# Altium schematic symbol library 00001-A-01.SchLib: 51 symbols
Pins are listed as number, name and electrical type; pins without a type are passive.

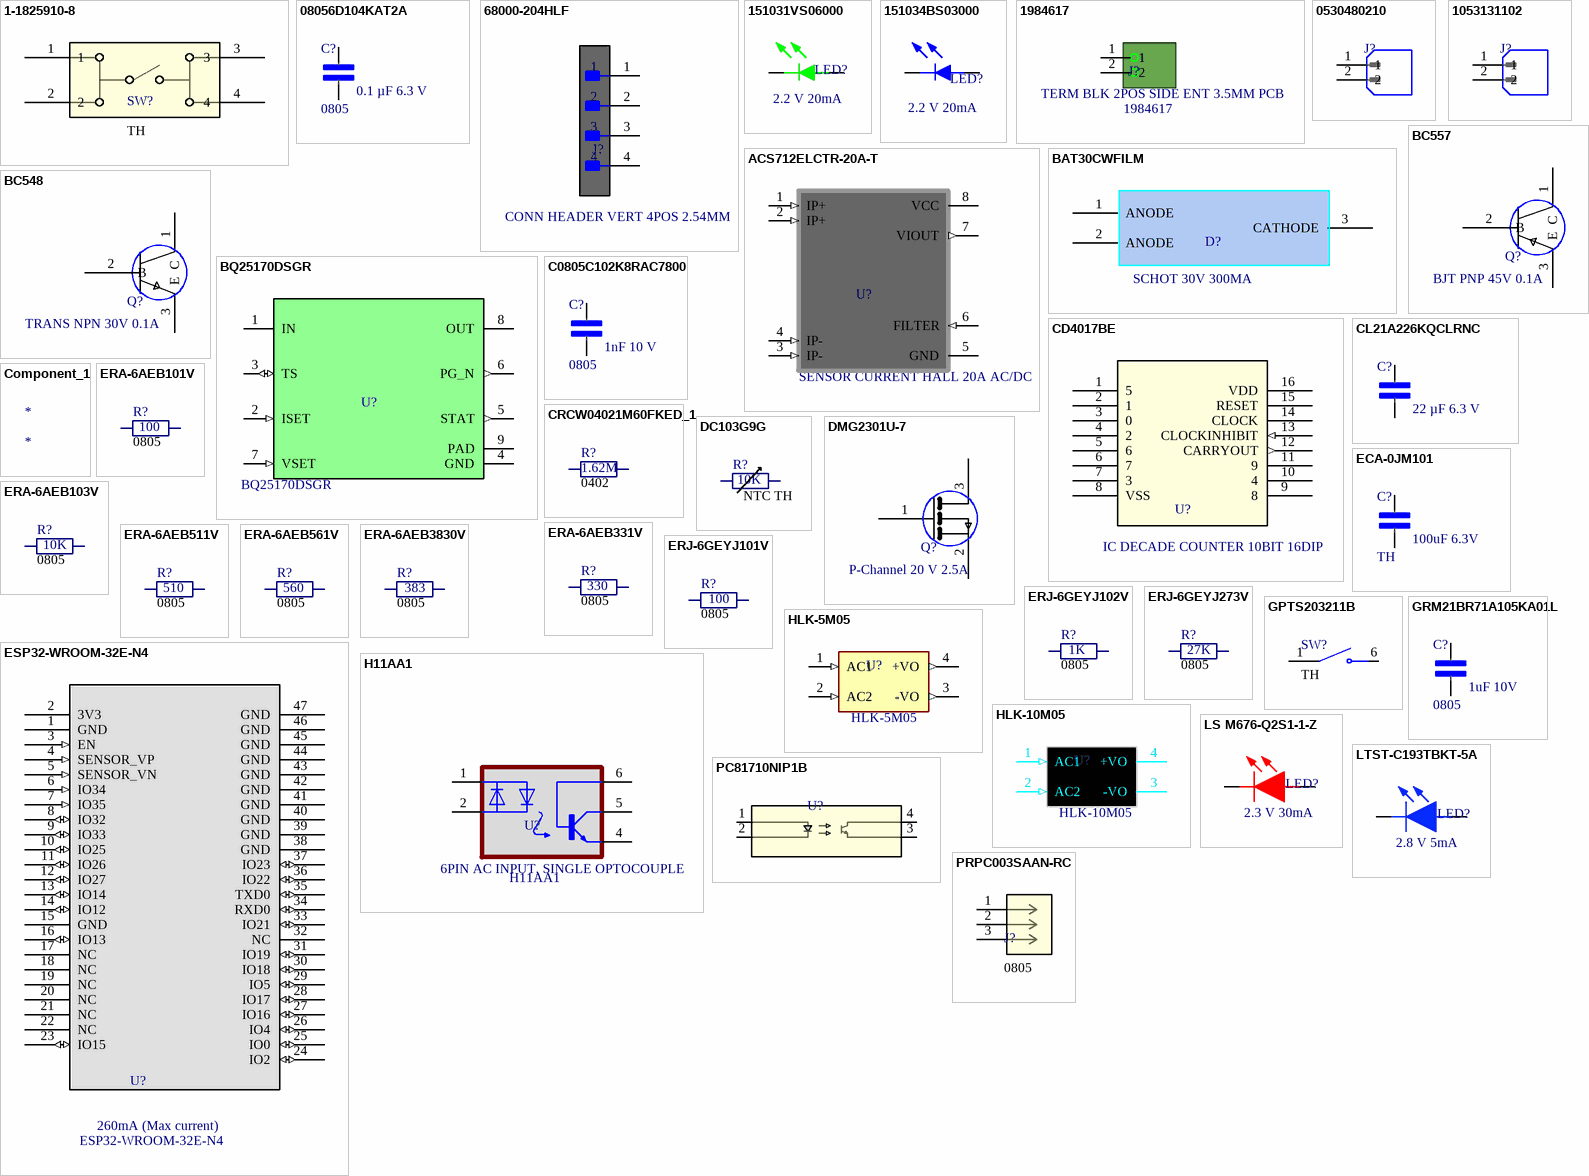
[diagram p0: symbols 1-1825910-8 to PRPC003SAAN-RC]

## 1-1825910-8
designator SW?  Package: TH  (hidden comment: 1-1825910-8)
Tactile Switch SPST-NO Top Actuated Through Hole; Manufacturer: TE Connectivity ALCOSWITCH Switches; Dranw by: Varun; FIT/NFIT: FIT; Manufacturer Part no.: 1-1825910-8; Distributor 1: Digikey; Distributor 1 Part no.: 450-1647-ND; Price: ₹8.38; Price (Quantity): ₹6.53800(100+); Date drawn: 12/9/2024; Distributor 2: *; Distributor 2 part no.: *; Verified by: *; Reference(datasheet): https://www.te.com/usa-en/product-1-1825910-8.datasheet.pdf; ComponentLink1Description: Reference Product Link; ComponentLink1URL: https://www.digikey.in/en/products/detail/te-connectivity-alcoswitch-switches/1-1825910-8/1632533; Supplier 1: Future Electronics; Supplier Part Number 1: 3054607
footprint SW4_1825910-E_TEC
pins: 1, 2, 3, 4

## 08056D104KAT2A
designator C?  value 0.1 µF 6.3 V  Value 2: 0805  (hidden comment: 08056D104KAT2A)
0.1 µF ±10% 6.3V Ceramic Capacitor X5R 0805 (2012 Metric); Manufacturer: KYOCERA AVX; FIT/NFIT: FIT; Manufacturer Part no.: 08056D104KAT2A; Distributor 1: digikey; Distributor 1 Part no.: 478-08056D104KAT2ACT-ND; Price: ₹8.38; Price (Quantity): ₹2.12900(100+); Date drawn: 04/07/24; Drawn by: Varun Chakravarthy; Distributor 2: *; Distributor 2 part no.: *; Reference(datasheet): https://datasheets.kyocera-avx.com/cx5r.pdf; ComponentLink1Description: Reference Product link; ComponentLink1URL: https://www.digikey.in/en/products/detail/kyocera-avx/08056D104KAT2A/11568656; Supplier 1: Digikey; Supplier Part Number 1: 478-08056D104KAT2ACT-ND
footprint CAP0805
pins: 1 +, 2 -

## 68000-204HLF
designator J?  value CONN HEADER VERT 4POS 2.54MM  (hidden comment: 68000-204HLF)
Connector Header Through Hole 4 position 0.100" (2.54mm); Manufacturer: Amphenol ICC (FCI); Dranw by: Varun; FIT/NFIT: FIT; Manufacturer Part no.: 68000-204HLF; Distributor 1: Digikey; Distributor 1 Part no.: 609-3255-ND; Price: ₹36.88; Price (Quantity): ₹20.97180 (100+); Date drawn: 3/9/2024; Distributor 2: *; Distributor 2 part no.: *; Verified by: *; Reference(datasheet): https://cdn.amphenol-cs.com/media/wysiwyg/files/documentation/datasheet/boardwiretoboard/bwb_bergstik.pdf; ComponentLink1Description: Reference Product Link; ComponentLink1URL: https://www.digikey.in/en/products/detail/amphenol-cs-fci/68000-204HLF/1878484?s=N4IgTCBcDaIGwA4AMKC0YkBYASAZAYiALoC%2BQA; Supplier 1: Avnet; Supplier Part Number 1: 28AH8822; Supplier 2: Arrow Electronics; Supplier Part Number 2: 68016-204HLF; Supplier 3: Arrow Electronics; Supplier Part Number 3: 68002-204HLF; Supplier 4: Arrow Electronics; Supplier Part Number 4: 68000-204HLF; Supplier 5: Arrow Electronics; Supplier Part Number 5: 68000-204HLF; Supplier 6: Newark; Supplier Part Number 6: 93K8020; Supplier 7: Avnet; Supplier Part Number 7: 84K6839
footprint Amphenol_FCI_0_MFG
pins: 1, 2, 3, 4

## 151031VS06000
designator LED?  value 2.2 V 20mA  (hidden comment: 151031VS06000)
Green 568nm LED Indication - Discrete 2.2V Radial; Manufacturer: Würth Elektronik; FIT/NFIT: FIT; Value1: 10%; Distributor 1: Digikey; Distributor 1 part no.: 732-5008-ND; Distributor 2 part no.: *; Distributor 2: *; Reference (datatsheet): https://www.we-online.com/components/products/datasheet/151031VS06000.pdf; Drawn by: Varun; Date drawn: 2/9/2024; Verified by: *; Price: ₹13.41; Price (Quantity): ₹11.14810(+100); Value2: *; Package: TH; Manufacturer part no.: 151031VS06000; ComponentLink1Description: Reference Product Link; ComponentLink1URL: https://www.digikey.in/en/products/detail/w%C3%BCrth-elektronik/151031VS06000/4489988; Supplier 1: Digikey; Supplier Part Number 1: 732-5008-ND
footprint WL-TMRC_D3.95H5.3_GREEN (THT Mono-color Round Color LED, 2-leads); pin to pad 1>2 2>1
pins: 1 K, 2 A

## 151034BS03000
designator LED?  value 2.2 V 20mA  (hidden comment: 151034BS03000)
Blue 470nm LED Indication - Discrete 2.8V Radial; Manufacturer: Würth Elektronik; FIT/NFIT: FIT; Value1: 10%; Distributor 1: Digikey; Distributor 1 part no.: 732-5008-ND; Distributor 2 part no.: *; Distributor 2: *; Reference (datatsheet): https://www.we-online.com/components/products/datasheet/151034BS03000.pdf; Drawn by: Varun; Date drawn: 2/9/2024; Verified by: *; Price: ₹16.76; Price (Quantity): ₹10.14220(+100); Value2: *; Package: TH; Manufacturer part no.: 151034BS03000; ComponentLink1Description: Reference Product Link; ComponentLink1URL: https://www.digikey.in/en/products/detail/w%C3%BCrth-elektronik/151034BS03000/7315745; Supplier 1: Digikey; Supplier Part Number 1: 732-11401-ND
footprint WL-TMRC_D3.95H5.3_BLUE (THT Mono-color Round Color LED, 2-leads); pin to pad 1>2 2>1
pins: 1 K, 2 A

## 1984617
designator J?  value TERM BLK 2POS SIDE ENT 3.5MM PCB  (hidden comment: 1984617)
2 Position Wire to Board Terminal Block Horizontal with Board 0.138" (3.50mm) Through Hole; Manufacturer: Phoenix Contact; FIT/NFIT: FIT; Distributor 1: Digikey; Distributor 1 Part no.: 277-1721-ND; Price: ₹36.88000; Price (Quantity): ₹36.88000(100+); Date drawn: 17/09/24; Drawn by: Varun Chakravarthy; Distributor 2: *; Distributor 2 part no.: *; Reference(datasheet): https://mm.digikey.com/Volume0/opasdata/d220001/medias/docus/2450/Combicon%20Compact%20Series.pdf; ComponentLink1Description: Reference Product Link; ComponentLink1URL: https://www.digikey.in/en/products/detail/isocom-components-2004-ltd/H11AA1/21185110; Supplier 1: Digikey; Supplier Part Number 1: 277-1721-ND; Supplier 2: Digikey; Supplier Part Number 2: 277-1721-ND; Supplier 3: Digikey; Supplier Part Number 3: 277-1721-ND; Manufacturer Part no.: 1984617
footprint PHOENIX_1984617
pins: 1, 2

## 0530480210
designator J?  (value not drawn)
Connector Header Through Hole, Right Angle 2 position 0.049" (1.25mm); Manufacturer: Molex; FIT/NFIT: FIT; Distributor 1: Digikey; Distributor 1 Part no.: WM1742-ND; Price: ₹31.85; Price (Quantity): ₹18.99575(80+); Date drawn: 2/9/24; Drawn by: Varun; Distributor 2: *; Distributor 2 part no.: *; Verified by: *; Reference(datasheet): https://www.molex.com/pdm_docs/sd/530480210_sd.pdf; ComponentLink1Description: Reference Product Link; ComponentLink1URL: https://www.electronicscomp.com/power-supply/power-supply-module/hi-link-power-supply-module/hlk-10m05-hi-link-5v-10w-ac-to-dc-power-supply-module; Supplier 1: Mouser; Supplier Part Number 1: 538-53048-0210
footprint MOLEX_530480210
pins: 1, 2

## 1053131102
designator J?  (value not drawn)
Connector Header Through Hole, Right Angle 2 position 0.049" (1.25mm); Manufacturer: Molex; FIT/NFIT: FIT; Distributor 1: Digikey; Distributor 1 Part no.: WM16893-ND; Price: ₹84.68; Price (Quantity): ₹58.42810(300+); Date drawn: 6/10/24; Drawn by: Varun; Distributor 2: *; Distributor 2 part no.: *; Verified by: *; Reference(datasheet): https://tools.molex.com/pdm_docs/ps/PS-105300-100-001.pdf; ComponentLink1Description: Reference Product Link; ComponentLink1URL: https://www.digikey.in/en/products/detail/molex/1053131102/7693174; Supplier 1: Mouser; Supplier Part Number 1: 538-105313-1102
footprint CON_1053131102
pins: 1, 2

## ACS712ELCTR-20A-T
designator U?  value SENSOR CURRENT HALL 20A AC/DC  (hidden comment: ACS712ELCTR-20A-T)
Current Sensor 20A 1 Channel Hall Effect, Open Loop Bidirectional 8-SOIC (0.154", 3.90mm Width); Manufacturer: onsemi; FIT/NFIT: FIT; Manufacturer Part no.: ACS712ELCTR-20A-T; Distributor 1: Digikey; Distributor 1 Part no.: 620-1190-1-ND; Price: ₹317.68; Price (Quantity): ₹194.98210(100+); Date drawn: 16/09/24; Drawn by: Varun Chakravarthy; Distributor 2: *; Distributor 2 part no.: *; Reference(datasheet): https://www.allegromicro.com/~/media/Files/Datasheets/ACS712-Datasheet.ashx; ComponentLink1Description: Reference Product Link; ComponentLink1URL: https://robu.in/product/bc557-pnp-transistor-pack-of-20/; Supplier 1: Arrow Electronics; Supplier Part Number 1: BCW30LT1G; Supplier 2: Avnet; Supplier Part Number 2: BC557ATA
footprint SOIC127P600X175-8N
pins: 1 IP+ (in), 2 IP+ (in), 3 IP- (in), 4 IP- (in), 5 GND (power), 6 FILTER (in), 7 VIOUT (out), 8 VCC (power)

## BAT30CWFILM
designator D?  value SCHOT 30V 300MA  (hidden comment: BAT30CWFILM)
Remote Receiver Sensor 38.0kHz 20m Through Hole; Manufacturer: STMicroelectronics; FIT/NFIT: FIT; Value 2: TH; Manufacturer Part no.: BAT30CWFILM; Distributor 1: Digikey; Distributor 1 Part no.: 497-5550-1-ND; Price: ₹20.12; Price (Quantity): ₹6.62180(100+); Date drawn: 12/07/24; Drawn by: Varun Chakravarthy; Reference(datasheet): https://www.st.com/content/ccc/resource/technical/document/datasheet/b5/44/50/dc/a4/84/48/70/CD00126118.pdf/files/CD00126118.pdf/jcr:content/translations/en.CD00126118.pdf; ComponentLink1Description: Reference Product link; ComponentLink1URL: https://www.digikey.in/en/products/detail/stmicroelectronics/BAT30CWFILM/1207017; ComponentLink2Description: Reference Product link2; ComponentLink2URL: https://robocraze.com/products/tsop-1838b-small?_pos=1&_sid=ae64a7e59&_ss=r; Supplier 1: Future Electronics; Supplier Part Number 1: 3034833
footprint SOT-323_2P2X1P35X1P3_STM-M
pins: 1 ANODE, 2 ANODE, 3 CATHODE

## BC548
designator Q?  value TRANS NPN 30V 0.1A  (hidden comment: BC548)
Bipolar (BJT) Transistor NPN 30 V 100 mA 300MHz 500 mW Through Hole TO-92-3; Manufacturer: Fairchild Semiconductor; FIT/NFIT: FIT; Manufacturer Part no.: BC548; Distributor 1: Digikey; Distributor 1 Part no.: 2156-BC548-FS-ND; Price: -; Price (Quantity): ₹4.19100 (bulk); Date drawn: 12/09/24; Drawn by: Varun Chakravarthy; Distributor 2: *; Distributor 2 part no.: *; Reference(datasheet): https://rocelec.widen.net/view/pdf/q1kc0zm1fe/FAIRS24942-1.pdf?t.download=true&u=5oefqw; ComponentLink1Description: Reference Product Link; ComponentLink1URL: https://robu.in/product/bc557-pnp-transistor-pack-of-20/; Supplier 1: Mouser; Supplier Part Number 1: 637-BC548A; Supplier 2: Mouser; Supplier Part Number 2: 637-BC548BBK; Supplier 3: Arrow Electronics; Supplier Part Number 3: BC548CBK
footprint TO-92-3L_5P33X5P2_ONS
pins: 1 C, 2 B, 3 E

## BC557
designator Q?, comment value BJT PNP 45V 0.1A  (hidden comment: BC557ATA)
P-Channel 20 V 2.5A (Ta) 800mW (Ta) Surface Mount SOT-23-3; Manufacturer: onsemi; FIT/NFIT: FIT; Manufacturer Part no.: BC557ATA; Distributor 1: Digikey; Distributor 1 Part no.: BC557ATACT-ND; Price: ₹24.31; Price (Quantity): ₹9.27890(100+); Date drawn: 12/09/24; Drawn by: Varun Chakravarthy; Distributor 2: *; Distributor 2 part no.: *; Reference(datasheet): https://www.onsemi.com/pdf/datasheet/bc556bta-d.pdf; ComponentLink1Description: Reference Product Link; ComponentLink1URL: https://robu.in/product/bc557-pnp-transistor-pack-of-20/; Supplier 1: Arrow Electronics; Supplier Part Number 1: BCW30LT1G; Supplier 2: Avnet; Supplier Part Number 2: BC557ATA
footprint TO-92-3L_5P33X5P2_ONS
pins: 1 C, 2 B, 3 E

## BQ25170DSGR
designator U?
800-MA LINEAR BATTERY CHARGER FO; Manufacturer: Texas Instruments; FIT/NFIT: FIT; Distributor 1: Digikey; Distributor 1 Part no.: 296-BQ25170DSGRCT-ND; Price: ₹84.66; Price (Quantity): ₹58.85000(100+); Date drawn: 31/8/24; Drawn by: Varun; Distributor 2: *; Distributor 2 part no.: *; Verified by: *; Reference(datasheet): https://www.ti.com/lit/ds/symlink/bq25170.pdf?HQS=dis-dk-null-digikeymode-dsf-pf-null-wwe&ts=1725183618378; ComponentLink1Description: Reference Product Link; ComponentLink1URL: https://www.digikey.in/en/products/detail/texas-instruments/BQ25170DSGR/14124032?s=N4IgjCBcoLQCxVAYygMwIYBsDOBTANCAPZQDaIAnGGAEwQC6Avs0A; Supplier 1: Mouser; Supplier Part Number 1: 595-BQ25170DSGR; Manufacturing Part number: BQ25170DSGR
footprint DSG0008A
pins: 1 IN (power), 2 ISET (in), 3 TS (io), 4 GND (power), 5 STAT (out), 6 PG_N (out), 7 VSET (in), 8 OUT (power), 9 PAD (power)

## C0805C102K8RAC7800
designator C?  value 1nF 10 V  Value 2: 0805  (hidden comment: C0805C102K8RAC7800)
1000 pF ±10% 10V Ceramic Capacitor X7R 0805 (2012 Metric); Manufacturer: KEMET; FIT/NFIT: FIT; Manufacturer Part no.: C0805C102K8RAC7800; Distributor 1: Digikey; Distributor 1 Part no.: 399-C0805C102K8RAC7800CT-ND; Price: ₹10.06; Price (Quantity): ₹3.31930(100+); Date drawn: 16/09/24; Drawn by: Varun Chakravarthy; Distributor 2: *; Distributor 2 part no.: *; Reference(datasheet): https://content.kemet.com/datasheets/KEM_C1002_X7R_SMD.pdf; ComponentLink1Description: Reference Product link; ComponentLink1URL: https://www.digikey.in/en/products/detail/kyocera-avx/08056D104KAT2A/11568656; Supplier 1: Digikey; Supplier Part Number 1: 478-08056D104KAT2ACT-ND
footprint CAP0805
pins: 1 +, 2 -

## CD4017BE
designator U?  value IC DECADE COUNTER 10BIT 16DIP  (hidden comment: CD4017BE)
Counter IC Counter, Decade 1 Element 10 Bit Positive, Negative 16-PDIP; Manufacturer: Texas Instruments; FIT/NFIT: FIT; Value 2: TH; Manufacturer Part no.: CD4017BE; Distributor 1: digikey; Distributor 1 Part no.: 296-2037-5-ND; Price: ₹87.17; Price (Quantity): ₹60.75270 (100+); Date drawn: 08/09/24; Drawn by: Varun Chakravarthy; Distributor 2: Robocraze; Distributor 2 part no.: CD4017 - Decade Counter IC; Reference(datasheet): https://www.ti.com/lit/ds/symlink/cd4017b.pdf?HQS=dis-dk-null-digikeymode-dsf-pf-null-wwe&ts=1725798122865&ref_url=https%253A%252F%252Fwww.ti.com%252Fgeneral%252Fdocs%252Fsuppproductinfo.tsp%253FdistId%253D10%2526gotoUrl%253Dhttps%253A%252F%252Fwww.ti.com%252Flit%252Fgpn%252Fcd4017b; ComponentLink1Description: Reference Product link; ComponentLink1URL: https://www.digikey.in/en/products/detail/kyocera-avx/08056D104KAT2A/11568656; ComponentLink2Description: Reference Product link2; ComponentLink2URL: https://robocraze.com/products/decade-counter-ic-cd4017; Supplier 1: Mouser; Supplier Part Number 1: 595-CD4017BE
footprint DIP794W45P254L1969H508Q16
pins: 1 5, 2 1, 3 0, 4 2, 5 6, 6 7, 7 3, 8 VSS (power), 9 8, 10 4, 11 9, 12 CARRYOUT (out), 13 CLOCKINHIBIT (in), 14 CLOCK, 15 RESET, 16 VDD (power)

## CL21A226KQCLRNC
designator C?  value 22 µF 6.3 V  (hidden comment: CL21A226KQCLRNC)
22 µF ±10% 6.3V Ceramic Capacitor X5R 0805 (2012 Metric); Manufacturer: Samsung Electro-Mechanics; FIT/NFIT: FIT; Value 2: 0805; Manufacturer Part no.: CL21A226KQCLRNC; Distributor 1: digikey; Distributor 1 Part no.: 478-08056D104KAT2ACT-ND; Price: ₹9.22; Price (Quantity): ₹2.81640100+); Date drawn: 03/9/2024; Drawn by: Varun Chakravarthy; Distributor 2: *; Distributor 2 part no.: *; Reference(datasheet): https://weblib.samsungsem.com/mlcc/mlcc-ec-data-sheet.do?partNumber=CL05Y105KP6VPN; ComponentLink1Description: Reference Product link; ComponentLink1URL: https://www.digikey.in/en/products/detail/samsung-electro-mechanics/CL21A226KQCLRNC/5961171; Supplier 1: Avnet; Supplier Part Number 1: CL21A226KQCLRNC
footprint CAP0805
pins: 1 +, 2 -

## Component_1
designator *

## CRCW04021M60FKED_1
designator R?, comment value 1.62M  Package: 0402  (hidden comment: RC0402FR-071M62L)
SMD Chip Resistor, 1.62 Mohm, ± 1%, 63 mW, 0402 [1005 Metric], Thick Film, General Purpose; Manufacturer: YAGEO; Dranw by: Varun; FIT/NFIT: FIT; Manufacturer Part no.: RC0402FR-071M62L; Distributor 1: Farnell; Distributor 1 Part no.: 4013172; Price: £0.002; Price (Quantity): £0.0019 (100+); Date drawn: 12/07/23; Distributor 2: *; Distributor 2 part no.: *; Verified by: *; Reference(datasheet): https://uk.farnell.com/yageo/rc0402fr-071m62l/res-1m62-1-0-063w-thick-film-0402/dp/4013172
footprint RES0402
pins: 1, 2

## DC103G9G
designator R?  value 10K  Package: NTC TH  (hidden comment: DC103G9G)
NTC Thermistor 10k Bead, Epoxy; Manufacturer: Panasonic Electronic Components; Dranw by: Varun; FIT/NFIT: FIT; Manufacturer Part no.: DC103G9G; Distributor 1: Digikey; Distributor 1 Part no.: 615-1054-ND; Price_1: ₹90.53; Price _1(Quantity): ₹49.83940 (100+); Date drawn: 1/9/2024; Distributor 2: Electronics Comp; Distributor 2 part no.: EC-0554; Verified by: *; Reference(datasheet): https://www.vishay.com/docs/29154/ntcle213e3.pdf; ComponentLink1Description: Reference Product Link; ComponentLink1URL: https://www.digikey.in/en/products/detail/panasonic-electronic-components/ERJ-6GEYJ273V/83082?s=N4IgTCBcDaIKICUBSBaAbAcTgTSWA7AMwBqIAugL5A; Price_2: Rs.9.00; ComponentLink2Description: Reference Product Link  2; ComponentLink2URL: https://www.electronicscomp.com/10k-ohm-ntc-thermistor?search=10k%20thermistor%20; Supplier 1: Digikey; Supplier Part Number 1: 615-1054-ND
footprint DC_USS
pins: 1, 2

## DMG2301U-7
designator Q?  value P-Channel 20 V 2.5A  (hidden comment: DMG2301U-7)
P-Channel 20 V 2.5A (Ta) 800mW (Ta) Surface Mount SOT-23-3; Manufacturer: Diodes Incorporated; FIT/NFIT: FIT; Manufacturer Part no.: DMG2301U-7; Distributor 1: digikey; Distributor 1 Part no.: DMG2301U-7DICT-ND; Price: ₹25.15; Price (Quantity): ₹9.06090(100+); Date drawn: 05/09/24; Drawn by: Varun Chakravarthy; Distributor 2: *; Distributor 2 part no.: *; Reference(datasheet): https://mm.digikey.com/Volume0/opasdata/d220001/medias/docus/645/DMG2301U.pdf; ComponentLink1Description: Reference Product Link; ComponentLink1URL: https://www.digikey.in/en/products/detail/murata-electronics/GRM21BR71A105KA01L/586695; Supplier 1: Future Electronics; Supplier Part Number 1: 5623319
footprint SOT23_DMG2301U_DIO
pins: 1 1/G, 2 2/S, 3 3/D

## ECA-0JM101
designator C?  value 100uF 6.3V  Value 2: TH  (hidden comment: ECA-0JM101)
100 µF 6.3 V Aluminum Electrolytic Capacitors Radial, Can 2000 Hrs @ 85°C; Manufacturer: Panasonic Electronic Components; FIT/NFIT: FIT; Manufacturer Part no.: ECA-0JM101; Distributor 1: Digikey; Distributor 1 Part no.: 478-08056D104KAT2ACT-ND; Price: ₹17.60; Price (Quantity): ₹5.75005(200+); Date drawn: 12/09/2024; Drawn by: Varun Chakravarthy; Distributor 2: *; Distributor 2 part no.: *; Reference(datasheet): https://mm.digikey.com/Volume0/opasdata/d220001/medias/docus/2452/ECA-xxM%20Series%2CTypeA.pdf; ComponentLink1Description: Reference Product link; ComponentLink1URL: https://www.digikey.in/en/products/detail/panasonic-electronic-components/ECA-0JM101/244970; Supplier 1: Mouser; Supplier Part Number 1: 667-ECA-0JM101; Supplier 2: Mouser; Supplier Part Number 2: 667-ECA-0JM101I; Supplier 3: Mouser; Supplier Part Number 3: 667-ECA-0JM101B
footprint EC-A_PAN
pins: 1 +, 2 -

## ERA-6AEB101V
designator R?  value 100  Package: 0805  (hidden comment: ERA-6AEB101V)
100 Ohms ±0.1% 0.125W, 1/8W Chip Resistor 0805 (2012 Metric) Automotive AEC-Q200 Thin Film; Manufacturer: Panasonic Electronic Components; Dranw by: Varun; FIT/NFIT: FIT; Manufacturer Part no.: ERA-6AEB101V; Distributor 1: Digikey; Distributor 1 Part no.: P100DACT-ND; Price: ₹10.90; Price (Quantity): ₹5.89250 (100+); Date drawn: 12/9/2024; Distributor 2: *; Distributor 2 part no.: *; Verified by: *; Reference(datasheet): https://industrial.panasonic.com/cdbs/www-data/pdf/RDM0000/AOA0000C307.pdf; ComponentLink1Description: Reference Product Link; ComponentLink1URL: https://www.digikey.in/en/products/detail/panasonic-electronic-components/ERA-6AEB101V/1465724; Supplier 1: Mouser; Supplier Part Number 1: 667-ERA-6AEB101V
footprint RES0805
pins: 1, 2

## ERA-6AEB103V
designator R?  value 10K  Package: 0805  (hidden comment: ERA-6AEB103V)
10 kOhms ±0.1% 0.125W, 1/8W Chip Resistor 0805 (2012 Metric) Automotive AEC-Q200 Thin Film; Manufacturer: Panasonic Electronic Components; Dranw by: Varun; FIT/NFIT: FIT; Manufacturer Part no.: ERA-6AEB103V; Distributor 1: Digikey; Distributor 1 Part no.: P10KDACT-ND; Price: ₹10.90; Price (Quantity): ₹5.89250 (100+); Date drawn: 1/9/2024; Distributor 2: *; Distributor 2 part no.: *; Verified by: *; Reference(datasheet): https://industrial.panasonic.com/cdbs/www-data/pdf/RDM0000/AOA0000C307.pdf; ComponentLink1Description: Reference Product Link; ComponentLink1URL: https://www.digikey.in/en/products/detail/panasonic-electronic-components/ERA-6AEB103V/1465773; Supplier 1: Future Electronics; Supplier Part Number 1: 5028531
footprint RES0805
pins: 1, 2

## ERA-6AEB331V
designator R?  value 330  Package: 0805  (hidden comment: ERA-6AEB331V)
330 Ohms ±0.1% 0.125W, 1/8W Chip Resistor 0805 (2012 Metric) Automotive AEC-Q200 Thin Film; Manufacturer: Panasonic Electronic Components; Dranw by: Varun; FIT/NFIT: FIT; Manufacturer Part no.: ERA-6AEB331V; Distributor 1: Digikey; Distributor 1 Part no.: P330DACT-ND; Price: ₹10.90; Price (Quantity): ₹5.89250 (100+); Date drawn: 12/9/2024; Distributor 2: *; Distributor 2 part no.: *; Verified by: *; Reference(datasheet): https://industrial.panasonic.com/cdbs/www-data/pdf/RDM0000/AOA0000C307.pdf; ComponentLink1Description: Reference Product Link; ComponentLink1URL: https://www.digikey.in/en/products/detail/panasonic-electronic-components/ERA-6AEB331V/1465736; Supplier 1: Future Electronics; Supplier Part Number 1: 7176711
footprint RES0805
pins: 1, 2

## ERA-6AEB511V
designator R?  value 510  Package: 0805  (hidden comment: ERA-6AEB511V)
510 Ohms ±0.1% 0.125W, 1/8W Chip Resistor 0805 (2012 Metric) Automotive AEC-Q200 Thin Film; Manufacturer: Panasonic Electronic Components; Dranw by: Varun; FIT/NFIT: FIT; Manufacturer Part no.: ERA-6AEB511V; Distributor 1: Digikey; Distributor 1 Part no.: P510DACT-ND; Price: ₹10.90; Price (Quantity): ₹5.89250 (100+); Date drawn: 12/9/2024; Distributor 2: *; Distributor 2 part no.: *; Verified by: *; Reference(datasheet): https://industrial.panasonic.com/cdbs/www-data/pdf/RDM0000/AOA0000C307.pdf; ComponentLink1Description: Reference Product Link; ComponentLink1URL: https://www.digikey.in/en/products/detail/panasonic-electronic-components/ERA-6AEB511V/1465741; Supplier 1: Mouser; Supplier Part Number 1: 667-ERA-6AEB511V
footprint RES0805
pins: 1, 2

## ERA-6AEB561V
designator R?  value 560  Package: 0805  (hidden comment: ERA-6AEB561V)
560 Ohms ±0.1% 0.125W, 1/8W Chip Resistor 0805 (2012 Metric) Automotive AEC-Q200 Thin Film; Manufacturer: Panasonic Electronic Components; Dranw by: Varun; FIT/NFIT: FIT; Manufacturer Part no.: ERA-6AEB561V; Distributor 1: Digikey; Distributor 1 Part no.: P560DACT-ND; Price: ₹10.90; Price (Quantity): ₹5.89250 (100+); Date drawn: 12/9/2024; Distributor 2: *; Distributor 2 part no.: *; Verified by: *; Reference(datasheet): https://industrial.panasonic.com/cdbs/www-data/pdf/RDM0000/AOA0000C307.pdf; ComponentLink1Description: Reference Product Link; ComponentLink1URL: https://www.digikey.in/en/products/detail/panasonic-electronic-components/ERA-6AEB561V/1465742; Supplier 1: Future Electronics; Supplier Part Number 1: 6065350
footprint RES0805
pins: 1, 2

## ERA-6AEB3830V
designator R?  value 383  Package: 0805  (hidden comment: ERA-6AEB3830V)
383 Ohms ±0.1% 0.125W, 1/8W Chip Resistor 0805 (2012 Metric) Automotive AEC-Q200 Thin Film; Manufacturer: Panasonic Electronic Components; Dranw by: Varun; FIT/NFIT: FIT; Manufacturer Part no.: ERA-6AEB3830V; Distributor 1: Digikey; Distributor 1 Part no.: 10-ERA-6AEB3830VCT-ND; Price: ₹10.90; Price (Quantity): ₹5.89250 (100+); Date drawn: 1/9/2024; Distributor 2: *; Distributor 2 part no.: *; Verified by: *; Reference(datasheet): https://industrial.panasonic.com/cdbs/www-data/pdf/RDM0000/AOA0000C307.pdf; ComponentLink1Description: Reference Product Link; ComponentLink1URL: https://www.digikey.in/en/products/detail/panasonic-electronic-components/ERA-6AEB3830V/2025625?s=N4IgTCBcDaIIwAYC0BRASgQSQNgygQgMwAchCAagMIAqSAcgCIgC6AvkA; Supplier 1: Future Electronics; Supplier Part Number 1: 1064269
footprint RES0805
pins: 1, 2

## ERJ-6GEYJ101V
designator R?  value 100  Package: 0805  (hidden comment: ERJ-6GEYJ101V)
100 Ohms ±5% 0.125W, 1/8W Chip Resistor 0805 (2012 Metric) Automotive AEC-Q200 Thick Film; Manufacturer: Panasonic Electronic Components; Dranw by: Varun; FIT/NFIT: FIT; Manufacturer Part no.: ERJ-6GEYJ101V; Distributor 1: Digikey; Distributor 1 Part no.: P100ACT-ND; Price: ₹8.38; Price (Quantity): ₹1.76020(100+); Date drawn: 1/9/2024; Distributor 2: *; Distributor 2 part no.: *; Verified by: *; Reference(datasheet): https://industrial.panasonic.com/cdbs/www-data/pdf/RDA0000/AOA0000C301.pdf; ComponentLink1Description: Reference Product Link; ComponentLink1URL: https://www.digikey.in/en/products/detail/panasonic-electronic-components/ERJ-6GEYJ101V/89678; Supplier 1: Future Electronics; Supplier Part Number 1: 9028505
footprint RES0805
pins: 1, 2

## ERJ-6GEYJ102V
designator R?  value 1K  Package: 0805  (hidden comment: ERJ-6GEYJ102V)
1 kOhms ±5% 0.125W, 1/8W Chip Resistor 0805 (2012 Metric) Automotive AEC-Q200 Thick Film; Manufacturer: Panasonic Electronic Components; Manufacturer Part no.: P1.0KACT-ND; Dranw by: Varun; FIT/NFIT: FIT; Distributor 1: Digikey; Distributor 1 Part no.: 10-ERA-6AEB3830VCT-ND; Price: ₹8.38; Price (Quantity): ₹1.76020 (100+); Date drawn: 1/9/2024; Distributor 2: *; Distributor 2 part no.: *; Verified by: *; Reference(datasheet): https://industrial.panasonic.com/cdbs/www-data/pdf/RDA0000/AOA0000C301.pdf; ComponentLink1Description: Reference Product Link; ComponentLink1URL: https://www.digikey.in/en/products/detail/panasonic-electronic-components/ERJ-6GEYJ102V/83014; Supplier 1: Future Electronics; Supplier Part Number 1: 9031152
footprint RES0805
pins: 1, 2

## ERJ-6GEYJ273V
designator R?  value 27K  Package: 0805  (hidden comment: ERJ-6GEYJ273V)
27 kOhms ±5% 0.125W, 1/8W Chip Resistor 0805 (2012 Metric) Automotive AEC-Q200 Thick Film; Manufacturer: Panasonic Electronic Components; Dranw by: Varun; FIT/NFIT: FIT; Manufacturer Part no.: ERJ-6GEYJ273V; Distributor 1: Digikey; Distributor 1 Part no.: P27KACT-ND; Price: ₹8.38; Price (Quantity): ₹1.76020 (100+); Date drawn: 1/9/2024; Distributor 2: *; Distributor 2 part no.: *; Verified by: *; Reference(datasheet): https://industrial.panasonic.com/cdbs/www-data/pdf/RDA0000/AOA0000C301.pdf; ComponentLink1Description: Reference Product Link; ComponentLink1URL: https://www.digikey.in/en/products/detail/panasonic-electronic-components/ERJ-6GEYJ273V/83082?s=N4IgTCBcDaIKICUBSBaAbAcTgTSWA7AMwBqIAugL5A; Supplier 1: Future Electronics; Supplier Part Number 1: 4054913
footprint RES0805
pins: 1, 2

## ESP32-WROOM-32E-N4
designator U?  Value1: 260mA (Max current)  (hidden comment: ESP32-WROOM-32E-N4)
Bluetooth, WiFi 802.11b/g/n, Bluetooth v4.2 +EDR, Class 1, 2 and 3 Transceiver Module 2.4GHz ~ 2.5GHz Integrated, Trace Surface Mount; Manufacturer: Espressif Systems; FIT/NFIT: FIT; Value2: 3.3V; Value: RF TXRX MOD BT BLE WIFI; Distributor 1: Digikey; Distributor 1 part no.: 1965-ESP32-WROOM-32E-N4CT-ND; Distributor 2 part no.: *; Distributor 2: *; Reference (datatsheet): https://www.espressif.com/sites/default/files/documentation/esp32-wroom-32e_esp32-wroom-32ue_datasheet_en.pdf; Drawn by: Varun; Date drawn: 2/9/2024; Verified by: *; Price: ₹209.55; Price (Quantity): ₹209.55(+100); Package: SMD; ComponentLink1Description: Reference Product Link; ComponentLink1URL: https://www.digikey.in/en/products/detail/espressif-systems/ESP32-WROOM-32E-N4/11613125; Supplier 1: Digikey; Supplier Part Number 1: 1965-ESP32-WROOM-32E-N4CT-ND; Manufacturer part no.: ESP32-WROOM-32E-N4
footprint ESP32­WROOM­32E_EXP
pins: 1 GND (power), 2 3V3 (power), 3 EN (in), 4 SENSOR_VP (in), 5 SENSOR_VN (in), 6 IO34 (in), 7 IO35 (in), 8 IO32 (io), 9 IO33 (io), 10 IO25 (io), 11 IO26 (io), 12 IO27 (io), 13 IO14 (io), 14 IO12 (io), 15 GND (power), 16 IO13 (io), 17 NC, 18 NC, 19 NC, 20 NC, 21 NC, 22 NC, 23 IO15 (io), 24 IO2 (io), 25 IO0 (io), 26 IO4 (io), 27 IO16 (io), 28 IO17 (io), 29 IO5 (io), 30 IO18 (io), 31 IO19 (io), 32 NC, 33 IO21 (io), 34 RXD0 (io), 35 TXD0 (io), 36 IO22 (io), 37 IO23 (io), 38 GND (power), 39 GND (power), 40 GND (power), 41 GND (power), 42 GND (power), 43 GND (power), 44 GND (power), 45 GND (power), 46 GND (power), 47 GND (power)

## GPTS203211B
designator SW?  Package: TH  (hidden comment: GPTS203211B)
Pushbutton Switch SPST Standard Through Hole; Manufacturer: CW Industries; Dranw by: Varun; FIT/NFIT: FIT; Manufacturer Part no.: GPTS203211B; Distributor 1: Digikey; Distributor 1 Part no.: CW181-ND; Price: ₹155.07; Price (Quantity): ₹119.03280 (100+); Date drawn: 3/9/2024; Distributor 2: *; Distributor 2 part no.: *; Verified by: *; Reference(datasheet): https://switches-connectors-custom.cwind.com/Asset/GPTS203211BR2.pdf; ComponentLink1Description: Reference Product Link; ComponentLink1URL: https://www.digikey.in/en/products/detail/cw-industries/GPTS203211B/3190590; Supplier 1: Digikey; Supplier Part Number 1: CW181-ND; Supplier 2: Digikey; Supplier Part Number 2: CW179-ND
footprint CW_Industries_GPTS203211B_0
pins: 1, 6

## GRM21BR71A105KA01L
designator C?  value 1uF 10V  Package: 0805  (hidden comment: GRM21BR71A105KA01L)
1 µF ±10% 10V Ceramic Capacitor X7R 0805 (2012 Metric); Manufacturer: Murata Electronics; FIT/NFIT: FIT; Manufacturer Part no.: GRM21BR71A105KA01L; Distributor 1: digikey; Distributor 1 Part no.: 490-1695-1-ND; Price: ₹10.06; Price (Quantity): ₹3.30250(100+); Date drawn: 01/09/24; Drawn by: Varun Chakravarthy; Distributor 2: *; Distributor 2 part no.: *; Reference(datasheet): https://search.murata.co.jp/Ceramy/image/img/A01X/G101/ENG/GRM21BR71A105KA01-01.pdf; ComponentLink1Description: Reference Product Link; ComponentLink1URL: https://www.digikey.in/en/products/detail/murata-electronics/GRM21BR71A105KA01L/586695; Supplier 1: Future Electronics; Supplier Part Number 1: 5623319
footprint CAP0805
pins: 1 +, 2 -

## H11AA1
designator U?  value 6PIN AC INPUT, SINGLE OPTOCOUPLE  (hidden comment: H11AA1)
Optoisolator Transistor with Base Output 5000Vrms 1 Channel 6-DIP; Manufacturer: Isocom Components 2004 LTD; FIT/NFIT: FIT; Distributor 1: digikey; Distributor 1 Part no.: 58-H11AA1-ND; Price: ₹29.49416; Price (Quantity): ₹29.49416(100+); Date drawn: 16/09/24; Drawn by: Varun Chakravarthy; Distributor 2: *; Distributor 2 part no.: *; Reference(datasheet): https://www.vishay.com/docs/83608/83608.pdf; ComponentLink1Description: Reference Product Link; ComponentLink1URL: https://www.digikey.in/en/products/detail/isocom-components-2004-ltd/H11AA1/21185110; Supplier 1: Future Electronics; Supplier Part Number 1: 5411806; Supplier 2: Mouser; Supplier Part Number 2: 782-H11AA1; Supplier 3: Future Electronics; Supplier Part Number 3: 9187492; Supplier 4: Future Electronics; Supplier Part Number 4: 8266744; Supplier 5: Mouser; Supplier Part Number 5: 512-H11AA1SR2VM; Supplier 6: Digikey; Supplier Part Number 6: H11AA1TVM-ND; Supplier 7: Mouser; Supplier Part Number 7: 782-H11AA1-X007T; Supplier 8: Digikey; Supplier Part Number 8: H11AA1SM-ND; Supplier 9: Future Electronics; Supplier Part Number 9: 2034656; Supplier 10: Mouser; Supplier Part Number 10: 782-H11AA1-X006; Manufacturer Part no.: H11AA1
footprint DIP762W50P254L730H410Q6
pins: 1 A/C, 2 C/A, 4 E, 5 C, 6 B

## HLK-5M05
designator U?
AC to DC Power Supply Module; Manufacturer: Hi-link; FIT/NFIT: FIT; Distributor 1: ElectroncisComp; Distributor 1 Part no.: EC-3194; Price: ₹189; Price (Quantity): ₹189 (100+); Date drawn: 28/8/24; Drawn by: Varun; Distributor 2: *; Distributor 2 part no.: *; Verified by: *; Reference(datasheet): https://www.electronicscomp.com/hlk-5m05-hi-link-5v-5w-ac-dc-power-supply-module; Manufacturer Part no.: HLK-5M05
footprint CONV_HLK-5M05
pins: 1 AC1 (in), 2 AC2 (in), 3 -VO (out), 4 +VO (out)

## HLK-10M05
designator U?
AC to DC Power Supply Module; Manufacturer: Hi-link; FIT/NFIT: FIT; Distributor 1: ElectroncisComp; Distributor 1 Part no.: EC-4693; Price: ₹199; Price (Quantity): ₹199(100+); Date drawn: 31/8/24; Drawn by: Varun; Distributor 2: *; Distributor 2 part no.: *; Verified by: *; Reference(datasheet): https://www.lcsc.com/datasheet/lcsc_datasheet_2305061443_HI-LINK-HLK-10M05_C403745.pdf; ComponentLink1Description: Reference Product Link; ComponentLink1URL: https://www.electronicscomp.com/power-supply/power-supply-module/hi-link-power-supply-module/hlk-10m05-hi-link-5v-10w-ac-to-dc-power-supply-module; Manufacturer Part no.: HLK-10M05
footprint CONV_HLK-10M05
pins: 1 AC1 (in), 2 AC2 (in), 3 -VO, 4 +VO

## LS M676-Q2S1-1-Z
designator LED?  value 2.3 V 30mA  (hidden comment: LS M676-Q2S1-1-Z)
Standard LEDs - SMD Super Red, 633nm 224mcd, 20mA; Manufacturer: ams OSRAM; Date drawn: 12/072023; FIT/NFIT: FIT; Value1: 10%; Distributor 1: Mouser; Distributor 1 part no.: 720-LSM676-Q2S1-1-Z; Distributor 2 part no.: *; Distributor 2: *; Reference (datatsheet): https://www.mouser.in/ProductDetail/ams-OSRAM/LS-M676-Q2S1-1-Z?qs=sGAEpiMZZMuCm2JlHBGefsr41A2gKzLGVzDa1YgO91o%3D; Drawn by: Varun; Verified by: *; Marturion Part No.: *; Price: ₹36.70; Price (Quantity): ₹15.93(+100); Value2: *; Package: 0805; Manufacturer part no.: LS M676-Q2S1-1-Z; Supplier 1: Mouser; Supplier Part Number 1: 720-LSM676-Q2S1-1-Z
footprint LEDM2214X140N
pins: 1 K, 2 A

## LTST-C193TBKT-5A
designator LED?  value 2.8 V 5mA  (hidden comment: LTST-C193TBKT-5A)
Blue 470nm LED Indication - Discrete 2.8V 0603 (1608 Metric); Manufacturer: Lite-On Inc.; Date drawn: 11/072023; FIT/NFIT: FIT; Value1: 10%; Distributor 1: Digikey; Distributor 1 part no.: 160-1827-2-ND; Distributor 2 part no.: *; Distributor 2: *; Reference (datatsheet): https://www.digikey.in/en/products/detail/liteon/LTST-C193TBKT-5A/2053656; Drawn by: Varun; Verified by: *; Marturion Part No.: *; Price: ₹25.04; Price (Quantity): ₹8.85510(+100); Value2: *; Package: 0603; Manufacturer part no.: LTST-C193TBKT-5A
footprint LED_LTST-C_LTO_BLUE
pins: 1 K, 2 A

## PC81710NIP1B
designator U?  (value not drawn)
Optoisolator Transistor Output 5000Vrms 1 Channel 4-SMD; Manufacturer: SHARP/Socle Technology; Dranw by: Varun; FIT/NFIT: FIT; Manufacturer Part no.: PC81710NIP1B; Distributor 1: Digikey; Distributor 1 Part no.: 1855-1014-1-ND; Price: ₹83.82; Price (Quantity): ₹39.43730(100+); Date drawn: 05/07/24; Distributor 2: *; Distributor 2 part no.: *; Verified by: *; Reference(datasheet): http://www.socle-tech.com/doc/IC%20Channel%20Product/Optoelectronic%20Components/Photocoupler/PC8171_NIP1B_ED-16P023.pdf; ComponentLink1Description: Product link; ComponentLink1URL: https://www.digikey.in/en/products/detail/sharp-socle-technology/PC81710NIP1B/7798258; Supplier 1: Mouser; Supplier Part Number 1: 852-PC81710NIP1B
footprint SOP_PC8171_SCT-M
pins: 1 ANODE, 2 CATHODE, 3 EMITTER, 4 COLLECTOR

## PRPC003SAAN-RC
designator J?  Package: 0805  (hidden comment: PRPC003SAAN-RC)
Connector Header Through Hole 3 position 0.100" (2.54mm); Manufacturer: Sullins Connector Solutions; Dranw by: Varun; FIT/NFIT: FIT; Manufacturer Part no.: PRPC003SAAN-RC; Distributor 1: Digikey; Distributor 1 Part no.: S1011EC-03-ND; Price: ₹36.88; Price (Quantity): ₹21.38250 (100+); Date drawn: 12/9/2024; Distributor 2: *; Distributor 2 part no.: *; Verified by: *; Reference(datasheet): https://mm.digikey.com/Volume0/opasdata/d220001/medias/docus/386/xRxCzzzSxxN-RC_ST_11635-B.pdf; ComponentLink1Description: Reference Product Link; ComponentLink1URL: https://www.digikey.in/en/products/detail/sullins-connector-solutions/PRPC003SAAN-RC/2775251?s=N4IgTCBcDaIAoCU4GEAMqDMBlAgjgcgLQLIgC6AvkA; Supplier 1: Digikey; Supplier Part Number 1: S1011EC-03-ND
footprint CONN_PRPC003SAAN-RC_SUL
pins: 1, 2, 3

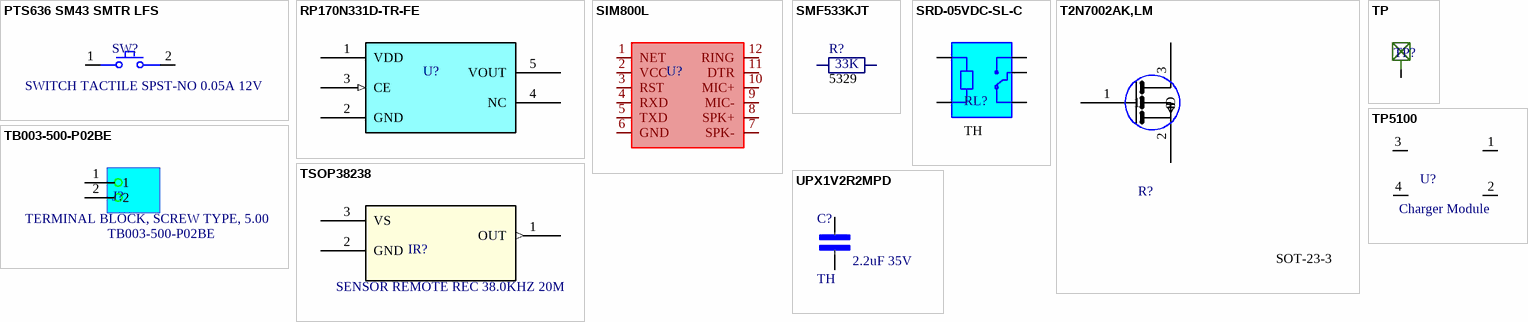
[diagram p1: symbols PTS636 SM43 SMTR LFS to UPX1V2R2MPD]

## PTS636 SM43 SMTR LFS
designator SW?  value SWITCH TACTILE SPST-NO 0.05A 12V  (hidden comment: PTS636 SM43 SMTR LFS)
Tactile Switch SPST-NO Top Actuated Surface Mount; Manufacturer: TE Connectivity AMP Connectors; FIT/NFIT: FIT; Manufacturer Part no.: PTS636 SM43 SMTR LFS; Distributor 1: digikey; Distributor 1 Part no.: CKN12310-2-ND; Price: ₹15.86; Price (Quantity): ₹13.48710(100+); Date drawn: 10/07/24; Drawn by: Varun Chakravarthy; Distributor 2: *; Distributor 2 part no.: *; Reference(datasheet): https://www.ckswitches.com/media/2779/pts636.pdf; Supplier 1: Arrow Electronics; Supplier Part Number 1: PTS636 SM43 SMTR LFS; ComponentLink1Description: Reference Product Link; ComponentLink1URL: https://www.digikey.in/en/products/detail/c-k/PTS636-SM43-SMTR-LFS/10071723
footprint SW_PTS636_SM43J_SMTR_LFS
pins: 1 COM, 2 NO

## RP170N331D-TR-FE
designator U?  (value not drawn)
Linear Voltage Regulator IC Positive Fixed 1 Output 300mA SOT-23-5; Manufacturer: Nisshinbo Micro Devices Inc.; FIT/NFIT: FIT; Distributor 1: Digikey; Distributor 1 Part no.: 2129-RP170N331D-TR-FECT-ND; Price: ₹48.62; Price (Quantity): ₹30.81220(100+); Date drawn: 31/8/24; Drawn by: Varun; Distributor 2: *; Distributor 2 part no.: *; Verified by: *; Reference(datasheet): https://www.nisshinbo-microdevices.co.jp/en/pdf/datasheet/rp170-ea.pdf; ComponentLink1Description: Reference Product Link; ComponentLink1URL: https://www.digikey.in/en/products/detail/nisshinbo-micro-devices-inc/RP170N331D-TR-FE/10216995; Supplier 1: Digikey; Supplier Part Number 1: 2129-RP170N331D-TR-FECT-ND
footprint SOT-23-5SC-74A_PE-SOT-23-5-180326_NMD-M
pins: 1 VDD (power), 2 GND (power), 3 CE (in), 4 NC, 5 VOUT (power)

## SIM800L
designator U?  (value not drawn)
miniature cellular GSM modem; Manufacturer: SIMCOM; Dranw by: Varun; FIT/NFIT: FIT; Manufacturer Part no.: -; Distributor 1: Alibaba; Distributor 1 Part no.: *; Price: ₹100; Price (Quantity): ₹100 (100+); Date drawn: 3/9/2024; Distributor 2: *; Distributor 2 part no.: *; Verified by: *; Reference(datasheet): https://cdn-shop.adafruit.com/datasheets/sim800_series_at_command_manual_v1.01.pdf; ComponentLink1Description: Reference Product Link; ComponentLink1URL: https://www.alibaba.com/product-detail/Smallest-GSM-GPRS-Module-Quad-Band_60819714360.html?spm=a2700.7724857.0.0.28ae22d6Oz3Vcz
footprint SIM800L-CORE
pins: 1 NET, 2 VCC, 3 RST, 4 RXD, 5 TXD, 6 GND, 7 SPK-, 8 SPK+, 9 MIC-, 10 MIC+, 11 DTR, 12 RING

## SMF533KJT
designator R?  value 33K  Package: 5329  (hidden comment: SMF533KJT)
33 kOhms ±5% 5W Chip Resistor 5329 (13573 Metric), J-Lead Flame Retardant Coating, Safety Metal Film; Manufacturer: TE Connectivity Passive Product; Dranw by: Varun; FIT/NFIT: FIT; Manufacturer Part no.: SMF533KJT; Distributor 1: Digikey; Distributor 1 Part no.: A106035CT-ND; Price: ₹92.20; Price (Quantity): ₹55.94150 (100+); Date drawn: 17/9/2024; Distributor 2: *; Distributor 2 part no.: *; Verified by: *; Reference(datasheet): https://www.te.com/usa-en/product-4-1879234-4.datasheet.pdf; ComponentLink1Description: Reference Product Link; ComponentLink1URL: https://www.digikey.in/en/products/detail/te-connectivity-passive-product/SMF533KJT/2367121; Supplier 1: Digikey; Supplier Part Number 1: A106035CT-ND; Supplier 2: Digikey; Supplier Part Number 2: A106035CT-ND
footprint RES_SMF5_TYCO_TYC
pins: 1, 2

## SRD-05VDC-SL-C
designator RL?  Package: TH  (hidden comment: SRD-05VDC-SL-C)
5V Trigger Relay Module; Manufacturer: SongLe; Dranw by: Varun; FIT/NFIT: FIT; Manufacturer Part no.: SRD-05VDC-SL-C; Distributor 1: Winsource; Distributor 1 Part no.: 340142-SRD-05VDC-SL-C; Price: $0.277; Price (Quantity): $0.277 (100+); Date drawn: 12/9/2024; Distributor 2: *; Distributor 2 part no.: *; Verified by: *; Reference(datasheet): https://www.snapeda.com/parts/SRD-05VDC-SL-C/Songle%20Relay/datasheet/; ComponentLink1Description: Reference Product Link; ComponentLink1URL: https://www.digikey.in/en/products/detail/panasonic-electronic-components/ERA-6AEB561V/1465742
footprint RELAY_SRD-05VDC-SL-C
pins: A1, A2, COM, NC, NO

## T2N7002AK,LM
designator R?  Package: SOT-23-3  (hidden comment: T2N7002AK,LM)
N-Channel 60 V 200mA (Ta) 320mW (Ta) Surface Mount SOT-23-3; Manufacturer: Toshiba Semiconductor and Storage; Dranw by: Varun; FIT/NFIT: FIT; Manufacturer Part no.: T2N7002AK,LM; Distributor 1: Digikey; Distributor 1 Part no.: T2N7002AKLMCT-ND; Price: ₹11.73; Price (Quantity): ₹4.24970 (100+); Date drawn: 12/9/2024; Distributor 2: *; Distributor 2 part no.: *; Verified by: *; Reference(datasheet): https://toshiba.semicon-storage.com/info/T2N7002AK_datasheet_en_20150401.pdf?did=29712&prodName=T2N7002AK; ComponentLink1Description: Reference Product Link; ComponentLink1URL: https://www.digikey.in/en/products/detail/toshiba-semiconductor-and-storage/T2N7002AK-LM/5298028; Supplier 1: Digikey; Supplier Part Number 1: T2N7002AKLMCT-ND
footprint SOT23_TOS-M
pins: 1, 2 S, 3 D

## TB003-500-P02BE
designator J?  value TERMINAL BLOCK, SCREW TYPE, 5.00  (hidden comment: TB003-500-P02BE)
2 Position Wire to Board Terminal Block Horizontal with Board 0.197" (5.00mm) Through Hole; Manufacturer: Same Sky; FIT/NFIT: FIT; Distributor 1: Digikey; Distributor 1 Part no.: 102-6161-ND; Price: ₹29.34000; Price (Quantity): ₹29.34000(100+); Date drawn: 26/09/24; Drawn by: Varun Chakravarthy; Distributor 2: *; Distributor 2 part no.: *; Reference(datasheet): https://www.sameskydevices.com/product/resource/tb003-500.pdf; ComponentLink1Description: Reference Product Link; ComponentLink1URL: https://www.digikey.in/en/products/detail/same-sky-formerly-cui-devices/TB003-500-P02BE/10064085; Supplier 1: Digikey; Supplier Part Number 1: 277-1721-ND; Supplier 2: Digikey; Supplier Part Number 2: 277-1721-ND; Supplier 3: Digikey; Supplier Part Number 3: 277-1721-ND; Manufacturer Part no.: TB003-500-P02BE
footprint CUI_TB003-500-P02BE
pins: 1, 2

## TP
designator TP?, comment TEST point  (value not drawn)
footprint TEST_POINT
pins: 1 G

## TP5100
designator U?  value Charger Module  (hidden comment: TP5100)
4.2v and 8.4v Dual One/Two Battery Protection Board; Manufacturer: Tap ower ASIC; FIT/NFIT: FIT; Manufacturer Part no.: TP5100; Distributor 1: ROBU; Distributor 1 Part no.: 62296; Price: ₹62; Price (Quantity): ₹62(100+); Date drawn: 10/07/24; Drawn by: Varun Chakravarthy; Distributor 2: *; Distributor 2 part no.: *; Reference(datasheet): https://voltiq.ru/datasheets/TP5100-datashhet.pdf; ComponentLink1Description: Reference Product Link; ComponentLink1URL: https://robu.in/product/tp5100-4-2v-8-4v-single-double-lithium-battery-charge-management-lion-battery-compatible-2a-charging-board/
footprint TP5100_MODULE
pins: 1 NO, 2 COM, 3 NO, 4 COM

## TSOP38238
designator IR?  value SENSOR REMOTE REC 38.0KHZ 20M  (hidden comment: TSOP38238)
Remote Receiver Sensor 38.0kHz 20m Through Hole; Manufacturer: KYOCERA AVX; FIT/NFIT: FIT; Value 2: TH; Manufacturer Part no.: TSOP38238; Distributor 1: digikey; Distributor 1 Part no.: 751-1227-ND; Price: ₹91.36; Price (Quantity): ₹50.28360(100+); Date drawn: 04/07/24; Drawn by: Varun Chakravarthy; Distributor 2: Robocraze; Distributor 2 part no.: TSOP 1838B small; Reference(datasheet): https://www.vishay.com/docs/82491/tsop382.pdf; ComponentLink1Description: Reference Product link; ComponentLink1URL: https://www.digikey.in/en/products/detail/texas-instruments/CD4017BE/67253; Supplier 1: Digikey; Supplier Part Number 1: 478-08056D104KAT2ACT-ND; ComponentLink2Description: Reference Product link2; ComponentLink2URL: https://robocraze.com/products/tsop-1838b-small?_pos=1&_sid=ae64a7e59&_ss=r
footprint TSOP382
pins: 1 OUT (out), 2 GND (power), 3 VS

## UPX1V2R2MPD
designator C?  value 2.2uF 35V  Value 2: TH  (hidden comment: UPX1V2R2MPD)
2.2 µF 35 V Aluminum Electrolytic Capacitors Radial, Can 20000 Hrs @ 105°C; Manufacturer: Nichicon; FIT/NFIT: FIT; Manufacturer Part no.: UPX1V2R2MPD; Distributor 1: Digikey; Distributor 1 Part no.: 493-15889-ND; Price: ₹67.89; Price (Quantity): ₹27.71930(200+); Date drawn: 12/09/2024; Drawn by: Varun Chakravarthy; Distributor 2: *; Distributor 2 part no.: *; Reference(datasheet): https://media.digikey.com/pdf/Data%20Sheets/Nichicon%20PDFs/UPX.pdf; ComponentLink1Description: Reference Product link; ComponentLink1URL: https://www.digikey.in/en/products/detail/nichicon/UPX1V2R2MPD/4994046; Supplier 1: Digikey; Supplier Part Number 1: 493-15889-ND; Supplier 2: Digikey; Supplier Part Number 2: 493-11908-1-ND
footprint CAP_RN_10X12P5_NCH
pins: 1 +, 2 -